# EAGLE library part NUCLEO-F746ZG (library FCC_parts)
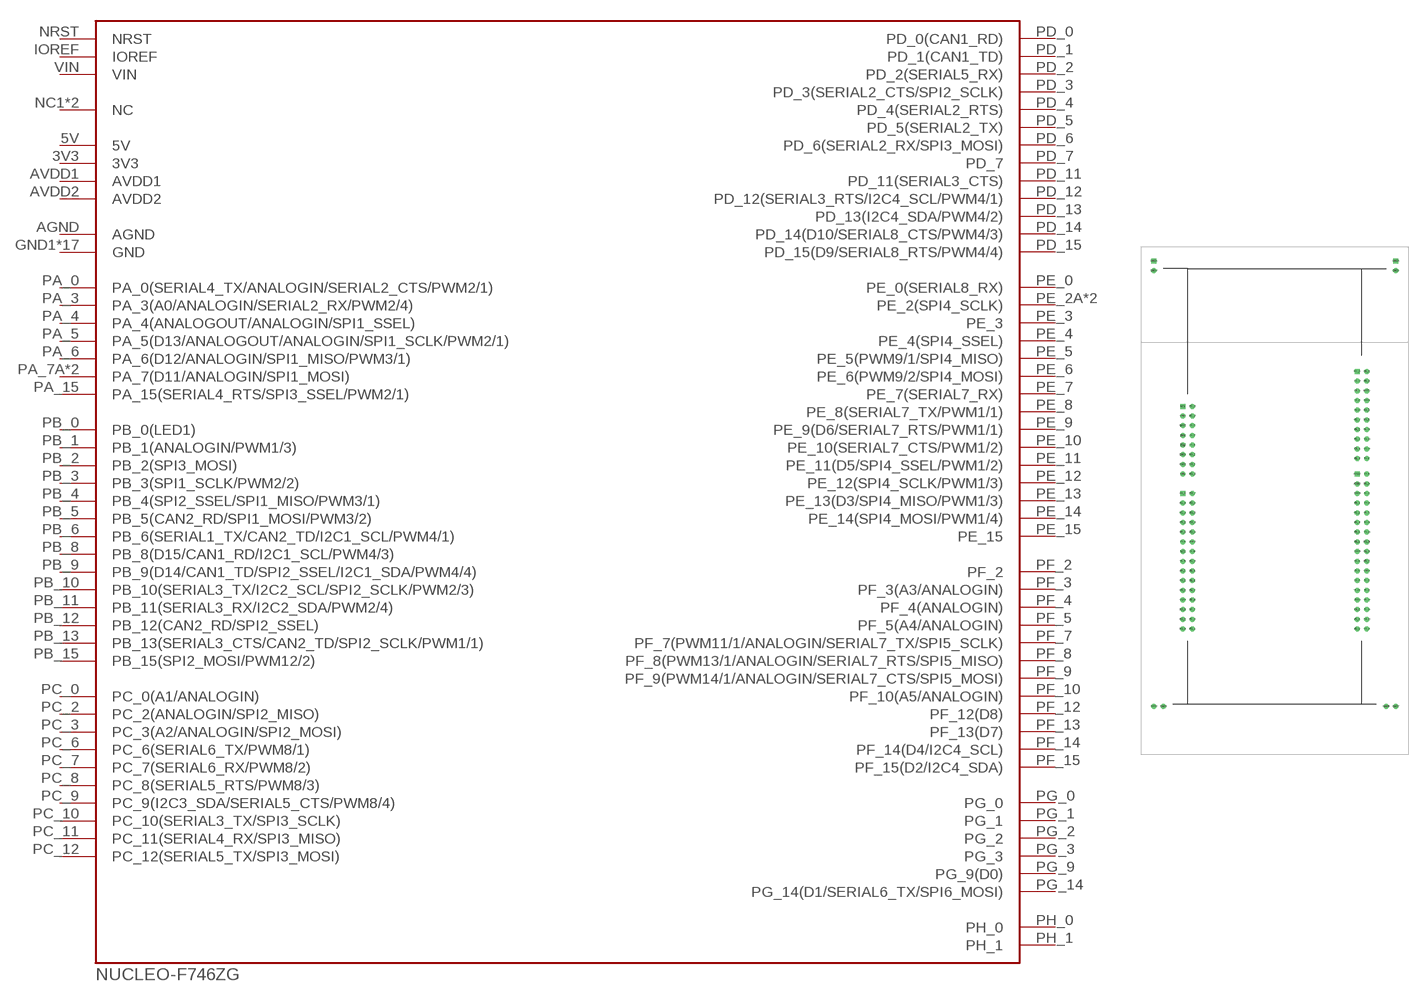
[diagram p0: symbol with the pads of NUCLEO-F746ZG; footprint NUCLEO-F746ZG]

Designator prefix -

## NUCLEO-F746ZGNUCLEO-F746ZG  [NUCLEO-F746ZG]
3V3  3V3
5V  5V
AGND  AGND
AVDD1  AVDD1
AVDD2  AVDD2
GND1  GND
GND2  GND
GND3  GND
GND4  GND
GND5  GND
GND6  GND
GND7  GND
GND8  GND
GND9  GND
GND10  GND
GND11  GND
GND12  GND
GND13  GND
GND14  GND
GND15  GND
GND16  GND
GND17  GND
IOREF  IOREF
NC1  NC
NC2  NC
NRST  NRST
PA_0  PA_0(SERIAL4_TX/ANALOGIN/SERIAL2_CTS/PWM2/1)
PA_3  PA_3(A0/ANALOGIN/SERIAL2_RX/PWM2/4)
PA_4  PA_4(ANALOGOUT/ANALOGIN/SPI1_SSEL)
PA_5  PA_5(D13/ANALOGOUT/ANALOGIN/SPI1_SCLK/PWM2/1)
PA_6  PA_6(D12/ANALOGIN/SPI1_MISO/PWM3/1)
PA_7A  PA_7(D11/ANALOGIN/SPI1_MOSI)
PA_7B  PA_7(D11/ANALOGIN/SPI1_MOSI)
PA_15  PA_15(SERIAL4_RTS/SPI3_SSEL/PWM2/1)
PB_0  PB_0(LED1)
PB_1  PB_1(ANALOGIN/PWM1/3)
PB_2  PB_2(SPI3_MOSI)
PB_3  PB_3(SPI1_SCLK/PWM2/2)
PB_4  PB_4(SPI2_SSEL/SPI1_MISO/PWM3/1)
PB_5  PB_5(CAN2_RD/SPI1_MOSI/PWM3/2)
PB_6  PB_6(SERIAL1_TX/CAN2_TD/I2C1_SCL/PWM4/1)
PB_8  PB_8(D15/CAN1_RD/I2C1_SCL/PWM4/3)
PB_9  PB_9(D14/CAN1_TD/SPI2_SSEL/I2C1_SDA/PWM4/4)
PB_10  PB_10(SERIAL3_TX/I2C2_SCL/SPI2_SCLK/PWM2/3)
PB_11  PB_11(SERIAL3_RX/I2C2_SDA/PWM2/4)
PB_12  PB_12(CAN2_RD/SPI2_SSEL)
PB_13  PB_13(SERIAL3_CTS/CAN2_TD/SPI2_SCLK/PWM1/1)
PB_15  PB_15(SPI2_MOSI/PWM12/2)
PC_0  PC_0(A1/ANALOGIN)
PC_2  PC_2(ANALOGIN/SPI2_MISO)
PC_3  PC_3(A2/ANALOGIN/SPI2_MOSI)
PC_6  PC_6(SERIAL6_TX/PWM8/1)
PC_7  PC_7(SERIAL6_RX/PWM8/2)
PC_8  PC_8(SERIAL5_RTS/PWM8/3)
PC_9  PC_9(I2C3_SDA/SERIAL5_CTS/PWM8/4)
PC_10  PC_10(SERIAL3_TX/SPI3_SCLK)
PC_11  PC_11(SERIAL4_RX/SPI3_MISO)
PC_12  PC_12(SERIAL5_TX/SPI3_MOSI)
PD_0  PD_0(CAN1_RD)
PD_1  PD_1(CAN1_TD)
PD_2  PD_2(SERIAL5_RX)
PD_3  PD_3(SERIAL2_CTS/SPI2_SCLK)
PD_4  PD_4(SERIAL2_RTS)
PD_5  PD_5(SERIAL2_TX)
PD_6  PD_6(SERIAL2_RX/SPI3_MOSI)
PD_7  PD_7
PD_11  PD_11(SERIAL3_CTS)
PD_12  PD_12(SERIAL3_RTS/I2C4_SCL/PWM4/1)
PD_13  PD_13(I2C4_SDA/PWM4/2)
PD_14  PD_14(D10/SERIAL8_CTS/PWM4/3)
PD_15  PD_15(D9/SERIAL8_RTS/PWM4/4)
PE_0  PE_0(SERIAL8_RX)
PE_2A  PE_2(SPI4_SCLK)
PE_2B  PE_2(SPI4_SCLK)
PE_3  PE_3
PE_4  PE_4(SPI4_SSEL)
PE_5  PE_5(PWM9/1/SPI4_MISO)
PE_6  PE_6(PWM9/2/SPI4_MOSI)
PE_7  PE_7(SERIAL7_RX)
PE_8  PE_8(SERIAL7_TX/PWM1/1)
PE_9  PE_9(D6/SERIAL7_RTS/PWM1/1)
PE_10  PE_10(SERIAL7_CTS/PWM1/2)
PE_11  PE_11(D5/SPI4_SSEL/PWM1/2)
PE_12  PE_12(SPI4_SCLK/PWM1/3)
PE_13  PE_13(D3/SPI4_MISO/PWM1/3)
PE_14  PE_14(SPI4_MOSI/PWM1/4)
PE_15  PE_15
PF_2  PF_2
PF_3  PF_3(A3/ANALOGIN)
PF_4  PF_4(ANALOGIN)
PF_5  PF_5(A4/ANALOGIN)
PF_7  PF_7(PWM11/1/ANALOGIN/SERIAL7_TX/SPI5_SCLK)
PF_8  PF_8(PWM13/1/ANALOGIN/SERIAL7_RTS/SPI5_MISO)
PF_9  PF_9(PWM14/1/ANALOGIN/SERIAL7_CTS/SPI5_MOSI)
PF_10  PF_10(A5/ANALOGIN)
PF_12  PF_12(D8)
PF_13  PF_13(D7)
PF_14  PF_14(D4/I2C4_SCL)
PF_15  PF_15(D2/I2C4_SDA)
PG_0  PG_0
PG_1  PG_1
PG_2  PG_2
PG_3  PG_3
PG_9  PG_9(D0)
PG_14  PG_14(D1/SERIAL6_TX/SPI6_MOSI)
PH_0  PH_0
PH_1  PH_1
VIN  VIN

## Footprint NUCLEO-F746ZG (pad centres in mm)
drill 0.8: 3V3 -24.13,17.151; 5V -24.13,14.611; AGND 21.59,4.451; AVDD1 24.13,28.835; GND1 -24.13,12.071; GND2 -24.13,9.531; GND4 -31.75,60.33; GND6 31.75,60.33; GND7 31.75,-53.969; GND8 29.21,-53.969; GND9 -29.21,-53.969; GND10 -31.75,-53.969; GND11 -24.13,-26.029; GND12 -21.59,-10.789; GND13 24.13,26.295; GND14 21.59,-13.329; GND15 21.59,-26.029; GND16 21.59,1.911; GND17 24.13,-18.409; IOREF -24.13,22.231; NC2 -24.13,-13.329; NRST -24.13,19.691; PA_0 21.59,-28.569; PA_4 21.59,13.595; PA_5 24.13,23.755; PA_6 24.13,21.215; PA_7A -24.13,-15.869; PA_7B 24.13,18.675; PA_15 21.59,23.755; PB_0 21.59,-31.109; PB_1 21.59,-0.629; PB_2 21.59,-10.789; PB_3 21.59,16.135; PB_4 21.59,11.055; PB_5 21.59,18.675; PB_6 21.59,-8.249; PB_8 24.13,33.915; PB_9 24.13,31.375; PB_10 24.13,-31.109; PB_11 24.13,-33.649; PB_12 21.59,26.295; PB_13 21.59,28.835; PB_15 21.59,31.375; PC_0 -24.13,-0.629; PC_2 21.59,-3.169; PC_3 -24.13,-3.169; PC_7 21.59,21.215; PC_8 -21.59,24.771; PC_9 -21.59,22.231; PC_10 -21.59,19.691; PC_11 -21.59,17.151; PC_12 -21.59,14.611; PD_0 -24.13,-28.569; PD_1 -24.13,-31.109; PD_2 -21.59,12.071; PD_3 -21.59,-8.249; PD_4 -21.59,-5.709; PD_5 -21.59,-3.169; PD_6 -21.59,-0.629; PD_7 -21.59,1.911; PD_11 21.59,-20.949; PD_12 21.59,-18.409; PD_13 21.59,-15.869; PD_14 24.13,16.135; PD_15 24.13,13.595; PE_0 21.59,-33.649; PE_2A -21.59,-13.329; PE_2B 21.59,-23.489; PE_3 -21.59,-23.489; PE_4 -21.59,-15.869; PE_5 -21.59,-18.409; PE_6 -21.59,-20.949; PE_7 24.13,-15.869; PE_8 24.13,-13.329; PE_9 24.13,4.451; PE_10 24.13,-20.949; PE_11 24.13,1.911; PE_12 24.13,-23.489; PE_13 24.13,-3.169; PE_14 24.13,-26.029; PE_15 24.13,-28.569; PF_2 -24.13,-18.409; PF_3 -24.13,-5.709; PF_4 21.59,-5.709; PF_5 -24.13,-8.249; PF_7 -21.59,-28.569; PF_8 -21.59,-26.029; PF_9 -21.59,-31.109; PF_10 -24.13,-10.789; PF_12 24.13,11.055; PF_13 24.13,6.991; PF_14 24.13,-0.629; PF_15 24.13,-5.709; PG_0 -24.13,-33.649; PG_1 -21.59,-33.649; PG_2 -21.59,9.531; PG_3 -21.59,6.991; PG_9 24.13,-10.789; PG_14 24.13,-8.249; PH_0 -24.13,-23.489; PH_1 -24.13,-20.949; VIN -24.13,6.991
drill 0.8 square: AVDD2 21.59,6.991; GND3 -31.75,62.87; GND5 31.75,62.87; NC1 -24.13,24.771; PA_3 -24.13,1.911; PC_6 21.59,33.915